# Altium schematic symbol library 744777004.SCHLIB: 3 symbols
Pins are listed as number, name and electrical type; pins without a type are passive.

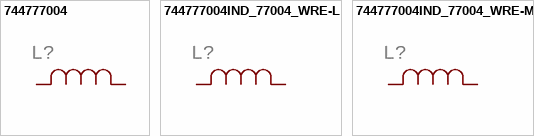
[diagram p0: symbols 744777004 to 744777004IND_77004_WRE-M]

## 744777004
designator L?
GateName_1: A; SymbolName_1: IND; DeviceSetName: 744777004; BUILT_BY: EMA_Matt; SOURCELIBRARY: Add_to_database_2021-05-18; VENDOR: Wurth Electronics; LibraryName: 744777004; Package: IND_77004_WRE; COPYRIGHT: Copyright (C) 2018 Accelerated Designs. All rights reserved; DATASHEET: https://www.mouser.com/datasheet/2/445/744777004-1722929.pdf; MANUFACTURER_PART_NUMBER: 744777004
footprint IND_77004_WRE
pins: 1, 2

## 744777004IND_77004_WRE-L
designator L?
GateName_1: A; SymbolName_1: IND; DeviceName: IND_77004_WRE-L; DeviceSetName: 744777004; BUILT_BY: EMA_Matt; SOURCELIBRARY: Add_to_database_2021-05-18; VENDOR: Wurth Electronics; LibraryName: 744777004; Package: IND_77004_WRE-L; COPYRIGHT: Copyright (C) 2018 Accelerated Designs. All rights reserved; DATASHEET: https://www.mouser.com/datasheet/2/445/744777004-1722929.pdf; MANUFACTURER_PART_NUMBER: 744777004
footprint IND_77004_WRE-L
pins: 1, 2

## 744777004IND_77004_WRE-M
designator L?
GateName_1: A; SymbolName_1: IND; DeviceName: IND_77004_WRE-M; DeviceSetName: 744777004; BUILT_BY: EMA_Matt; SOURCELIBRARY: Add_to_database_2021-05-18; VENDOR: Wurth Electronics; LibraryName: 744777004; Package: IND_77004_WRE-M; COPYRIGHT: Copyright (C) 2018 Accelerated Designs. All rights reserved; DATASHEET: https://www.mouser.com/datasheet/2/445/744777004-1722929.pdf; MANUFACTURER_PART_NUMBER: 744777004
footprint IND_77004_WRE-M
pins: 1, 2